# EAGLE library part SH10P (library duckypad)
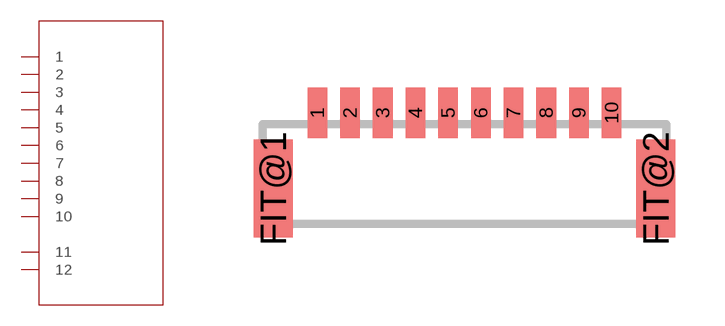
[diagram p7: symbol with the pads of DUCKYPAD_SM12B-SSR-H-TB; footprint DUCKYPAD_SM12B-SSR-H-TB]

Designator prefix -

## SH10P  [DUCKYPAD_SM12B-SSR-H-TB]
1  1  pas
2  2  pas
3  3  pas
4  4  pas
5  5  pas
6  6  pas
7  7  pas
8  8  pas
9  9  pas
10  10  pas
FIT@1  11  pas
FIT@2  12  pas

## Footprint DUCKYPAD_SM12B-SSR-H-TB (pad centres in mm)
Shrouded Header
smd 0.6 x 1.55: 1 -4.5,1.925; 2 -3.5,1.925; 3 -2.5,1.925; 4 -1.5,1.925; 5 -0.5,1.925; 6 0.5,1.925; 7 1.5,1.925; 8 2.5,1.925; 9 3.5,1.925; 10 4.5,1.925
smd 1.2 x 3: FIT@1 -5.85,-0.4; FIT@2 5.85,-0.4